# EAGLE library part MINIMUS-USB-32K (library X893)
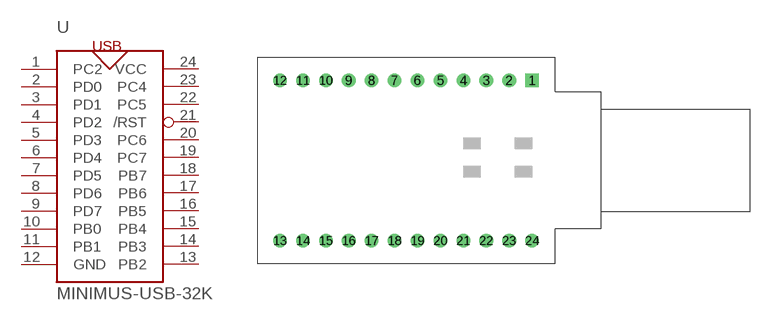
[diagram p132: symbol with the pads of MINIMUS-USB-32K; footprint MINIMUS-USB-32K]

Designator prefix U

## MINIMUS-USB-32K  [MINIMUS-USB-32K]
1  PC2
2  PD0
3  PD1
4  PD2
5  PD3
6  PD4
7  PD5
8  PD6
9  PD7
10  PB0
11  PB1
12  GND  sup
13  PB2
14  PB3
15  PB4
16  PB5
17  PB6
18  PB7
19  PC7
20  PC6
21  /RST  in
22  PC5
23  PC4
24  VCC  pwr

## Footprint MINIMUS-USB-32K (pad centres in mm)
drill 1 square: 1 13.335,8.89
drill 1: 2 10.795,8.89; 3 8.255,8.89; 4 5.715,8.89; 5 3.175,8.89; 6 0.635,8.89; 7 -1.905,8.89; 8 -4.445,8.89; 9 -6.985,8.89; 10 -9.525,8.89; 11 -12.065,8.89; 12 -14.605,8.89; 13 -14.605,-8.89; 14 -12.065,-8.89; 15 -9.525,-8.89; 16 -6.985,-8.89; 17 -4.445,-8.89; 18 -1.905,-8.89; 19 0.635,-8.89; 20 3.175,-8.89; 21 5.715,-8.89; 22 8.255,-8.89; 23 10.795,-8.89; 24 13.335,-8.89